# EAGLE library part FT2232HL (library PAS)
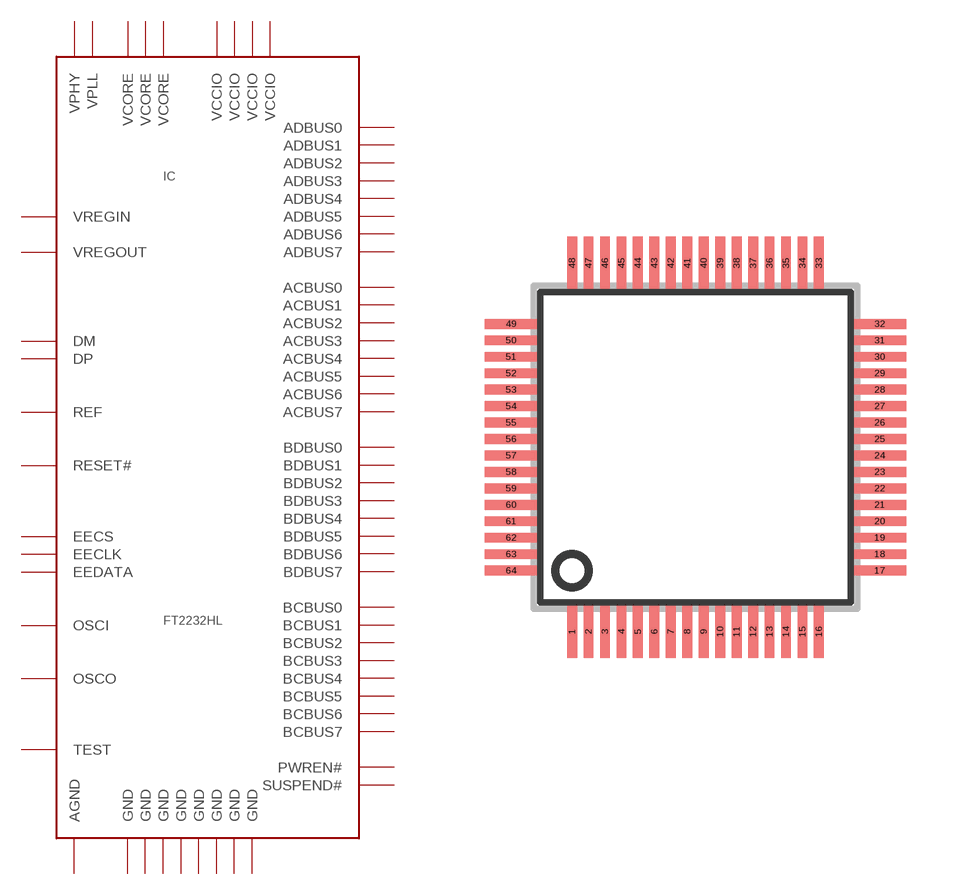
[diagram p9: symbol with the pads of SQFP-S-10X10-64; footprint SQFP-S-10X10-64]

Designator prefix IC

## FT2232HL  [SQFP-S-10X10-64]
1  GND  pas
2  OSCI  pas
3  OSCO  pas
4  VPHY  pas
5  GND  pas
6  REF  pas
7  DM  pas
8  DP  pas
9  VPLL  pas
10  AGND  pas
11  GND  pas
12  VCORE  pas
13  TEST  pas
14  RESET#  pas
15  GND  pas
16  ADBUS0  pas
17  ADBUS1  pas
18  ADBUS2  pas
19  ADBUS3  pas
20  VCCIO  pas
21  ADBUS4  pas
22  ADBUS5  pas
23  ADBUS6  pas
24  ADBUS7  pas
25  GND  pas
26  ACBUS0  pas
27  ACBUS1  pas
28  ACBUS2  pas
29  ACBUS3  pas
30  ACBUS4  pas
31  VCCIO  pas
32  ACBUS5  pas
33  ACBUS6  pas
34  ACBUS7  pas
35  GND  pas
36  SUSPEND#  pas
37  VCORE  pas
38  BDBUS0  pas
39  BDBUS1  pas
40  BDBUS2  pas
41  BDBUS3  pas
42  VCCIO  pas
43  BDBUS4  pas
44  BDBUS5  pas
45  BDBUS6  pas
46  BDBUS7  pas
47  GND  pas
48  BCBUS0  pas
49  VREGOUT  pas
50  VREGIN  pas
51  GND  pas
52  BCBUS1  pas
53  BCBUS2  pas
54  BCBUS3  pas
55  BCBUS4  pas
56  VCCIO  pas
57  BCBUS5  pas
58  BCBUS6  pas
59  BCBUS7  pas
60  PWREN#  pas
61  EEDATA  pas
62  EECLK  pas
63  EECS  pas
64  VCORE  pas

## Footprint SQFP-S-10X10-64 (pad centres in mm)
QFP64 shrink quad flat pack, square
smd 0.3 x 1.6: 1 -3.75,-5.6; 2 -3.25,-5.6; 3 -2.75,-5.6; 4 -2.25,-5.6; 5 -1.75,-5.6; 6 -1.25,-5.6; 7 -0.75,-5.6; 8 -0.25,-5.6; 9 0.25,-5.6; 10 0.75,-5.6; 11 1.25,-5.6; 12 1.75,-5.6; 13 2.25,-5.6; 14 2.75,-5.6; 15 3.25,-5.6; 16 3.75,-5.6; 33 3.75,5.6; 34 3.25,5.6; 35 2.75,5.6; 36 2.25,5.6; 37 1.75,5.6; 38 1.25,5.6; 39 0.75,5.6; 40 0.25,5.6; 41 -0.25,5.6; 42 -0.75,5.6; 43 -1.25,5.6; 44 -1.75,5.6; 45 -2.25,5.6; 46 -2.75,5.6; 47 -3.25,5.6; 48 -3.75,5.6
smd 1.6 x 0.3: 17 5.6,-3.75; 18 5.6,-3.25; 19 5.6,-2.75; 20 5.6,-2.25; 21 5.6,-1.75; 22 5.6,-1.25; 23 5.6,-0.75; 24 5.6,-0.25; 25 5.6,0.25; 26 5.6,0.75; 27 5.6,1.25; 28 5.6,1.75; 29 5.6,2.25; 30 5.6,2.75; 31 5.6,3.25; 32 5.6,3.75; 49 -5.6,3.75; 50 -5.6,3.25; 51 -5.6,2.75; 52 -5.6,2.25; 53 -5.6,1.75; 54 -5.6,1.25; 55 -5.6,0.75; 56 -5.6,0.25; 57 -5.6,-0.25; 58 -5.6,-0.75; 59 -5.6,-1.25; 60 -5.6,-1.75; 61 -5.6,-2.25; 62 -5.6,-2.75; 63 -5.6,-3.25; 64 -5.6,-3.75